# Altium footprint library pin1x5.PcbLib: 2 footprints
Each footprint in its own frame and in the unit in brackets; x right, y up, seen from the top. Pads: shape width x height; smd on the part's side, far side on the other; paste and mask are expansions set on the pad; w line width, h text height; cw(c..) or ccw(c..) is an arc to the next point about the centre after c.
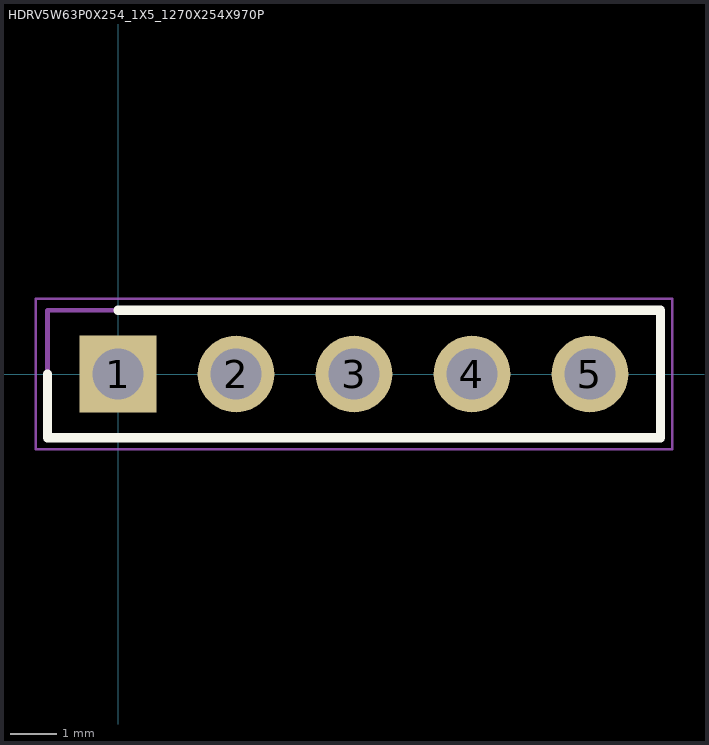
[diagram p0: the footprints below, top view; thin cyan lines are the x and y axes]

## HDRV5W63P0X254_1X5_1270X254X970P [mm]
pads (5):
  rect 1.65x1.65 hole 1.1: 1(0,0)
  round 1.65 hole 1.1: 2(2.54,0) 3(5.08,0) 4(7.62,0) 5(10.16,0)
Top Overlay:
  lines w0.2: -1.52,0 -1.52,-1.37 11.68,-1.37 11.68,1.37 0,1.37
Mechanical 13:
  lines w0.1: -1.52,-1.37 11.68,-1.37 11.68,1.37 -1.52,1.37 -1.52,-1.37
Mechanical 15:
  lines w0.05: -1.77,-1.62 11.93,-1.62 11.93,1.62 -1.77,1.62 -1.77,-1.62
3D body "825433-5.stp": height 9.5, standoff -3.2, extent -1.16,-2.28 11.54,1.37

## PCBComponent_1 [mm]